# EAGLE library part PI49FCT3807C (library LunchBox48_ASIC_board)
1:10 clk buffer
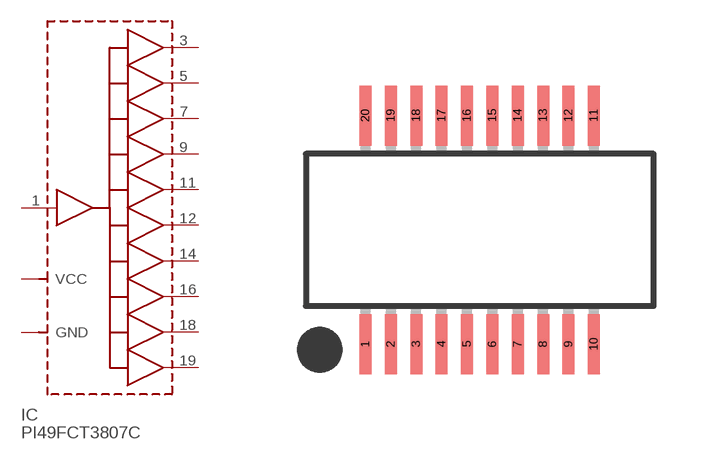
[diagram p1: symbol with the pads of SSOP-20; footprint SSOP-20]

Designator prefix IC

## PI49FCT3807C  [SSOP-20]
1  A  in
2  GND  pwr
3  B0  out
4  VCC  pwr
5  B1  out
6  GND  pwr
7  B2  out
8  VCC  pwr
9  B3  out
10  GND  pwr
11  B4  out
12  B5  out
13  GND  pwr
14  B6  out
15  VCC  pwr
16  B7  out
17  GND  pwr
18  B8  out
19  B9  out
20  VCC  pwr

## Footprint SSOP-20 (pad centres in mm)
smd 0.3 x 1.5: 1 -2.857,-2.857; 2 -2.223,-2.857; 3 -1.587,-2.857; 4 -0.953,-2.857; 5 -0.318,-2.857; 6 0.318,-2.857; 7 0.953,-2.857; 8 1.587,-2.857; 9 2.223,-2.857; 10 2.857,-2.857; 11 2.857,2.857; 12 2.223,2.857; 13 1.587,2.857; 14 0.953,2.857; 15 0.318,2.857; 16 -0.318,2.857; 17 -0.953,2.857; 18 -1.587,2.857; 19 -2.223,2.857; 20 -2.857,2.857